# EAGLE library part CP2108-GM (library Silicon Labs)
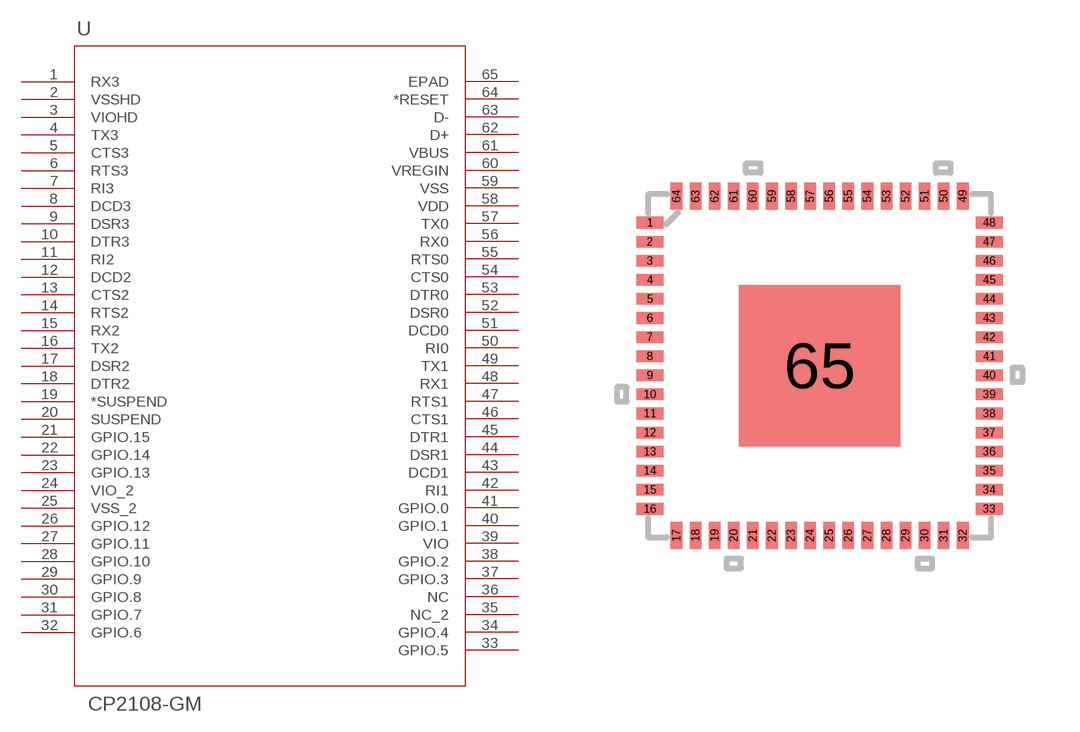
[diagram p0: symbol with the pads of QFN64; footprint QFN64]

Designator prefix U

## CP2108-GM (MANUFACTURER_PART_NUMBER: cp2108-gm; VENDOR: Silicon Labs)  [QFN64]
1  RX3  in
2  VSSHD  pwr
3  VIOHD
4  TX3  out
5  CTS3  in
6  RTS3  out
7  RI3  in
8  DCD3  in
9  DSR3  in
10  DTR3  out
11  RI2  in
12  DCD2  in
13  CTS2  in
14  RTS2  out
15  RX2  in
16  TX2  out
17  DSR2  in
18  DTR2  out
19  *SUSPEND  out
20  SUSPEND  out
21  GPIO.15
22  GPIO.14
23  GPIO.13
24  VIO_2
25  VSS_2  pwr
26  GPIO.12
27  GPIO.11
28  GPIO.10
29  GPIO.9
30  GPIO.8
31  GPIO.7
32  GPIO.6
33  GPIO.5
34  GPIO.4
35  NC_2  nc
36  NC  nc
37  GPIO.3
38  GPIO.2
39  VIO
40  GPIO.1
41  GPIO.0
42  RI1  in
43  DCD1  in
44  DSR1  in
45  DTR1  out
46  CTS1  in
47  RTS1  out
48  RX1  in
49  TX1  out
50  RI0  in
51  DCD0  in
52  DSR0  in
53  DTR0  out
54  CTS0  in
55  RTS0  out
56  RX0  in
57  TX0  out
58  VDD  pwr
59  VSS  pwr
60  VREGIN  in
61  VBUS  in
62  D+  pas
63  D-  pas
64  *RESET  out
65  EPAD  pas

## Footprint QFN64 (pad centres in mm)
smd 0.711 x 0.305: 1 -4.445,3.75; 2 -4.445,3.25; 3 -4.445,2.75; 4 -4.445,2.25; 5 -4.445,1.75; 6 -4.445,1.25; 7 -4.445,0.75; 8 -4.445,0.25; 9 -4.445,-0.25; 10 -4.445,-0.75; 11 -4.445,-1.25; 12 -4.445,-1.75; 13 -4.445,-2.25; 14 -4.445,-2.75; 15 -4.445,-3.25; 16 -4.445,-3.75; 33 4.445,-3.75; 34 4.445,-3.25; 35 4.445,-2.75; 36 4.445,-2.25; 37 4.445,-1.75; 38 4.445,-1.25; 39 4.445,-0.75; 40 4.445,-0.25; 41 4.445,0.25; 42 4.445,0.75; 43 4.445,1.25; 44 4.445,1.75; 45 4.445,2.25; 46 4.445,2.75; 47 4.445,3.25; 48 4.445,3.75
smd 0.305 x 0.711: 17 -3.75,-4.445; 18 -3.25,-4.445; 19 -2.75,-4.445; 20 -2.25,-4.445; 21 -1.75,-4.445; 22 -1.25,-4.445; 23 -0.75,-4.445; 24 -0.25,-4.445; 25 0.25,-4.445; 26 0.75,-4.445; 27 1.25,-4.445; 28 1.75,-4.445; 29 2.25,-4.445; 30 2.75,-4.445; 31 3.25,-4.445; 32 3.75,-4.445; 49 3.75,4.445; 50 3.25,4.445; 51 2.75,4.445; 52 2.25,4.445; 53 1.75,4.445; 54 1.25,4.445; 55 0.75,4.445; 56 0.25,4.445; 57 -0.25,4.445; 58 -0.75,4.445; 59 -1.25,4.445; 60 -1.75,4.445; 61 -2.25,4.445; 62 -2.75,4.445; 63 -3.25,4.445; 64 -3.75,4.445
smd 4.242 x 4.242: 65 0,0